# EAGLE library part TPL5010 (library ICs)
Programmable Timer IC TSOT-23-6
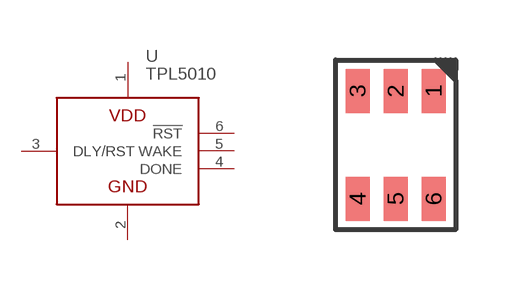
[diagram p252: symbol with the pads of SOT23-6; footprint SOT23-6]

Designator prefix U

## TPL5010DDCR (DIGIKEY: 296-44392-1-ND; HEIGHT: 1; PRICE_PER: 0.72; VALUE: TPL5010)  [SOT23-6]
1  VDD
2  GND
3  DLY/RST
4  DONE
5  WAKE
6  !RST

## Footprint SOT23-6 (pad centres in mm)
smd 0.6 x 1.1: 1 0.95,1.35; 2 0,1.35; 3 -0.95,1.35; 4 -0.95,-1.35; 5 0,-1.35; 6 0.95,-1.35